# Altium schematic symbol library YF-S201.SchLib: 1 symbol
Pins are listed as number, name and electrical type; pins without a type are passive.

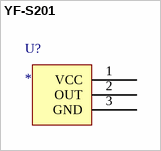
[diagram p0: symbol YF-S201]

## YF-S201
designator U?
pins: 1 VCC, 2 OUT, 3 GND